# Altium schematic symbol library LMV710.Schlib: 1 symbol
Pins are listed as number, name and electrical type; pins without a type are passive.

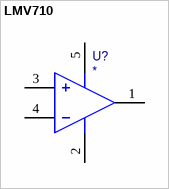
[diagram p0: symbol LMV710]

## LMV710
designator U?
pins: 1 OUT, 2 GND, 3 IN+, 4 IN-, 5 V+